# EAGLE library part MAX7480 (library HyTechDevices)
8th-order lowpass butterworth filter
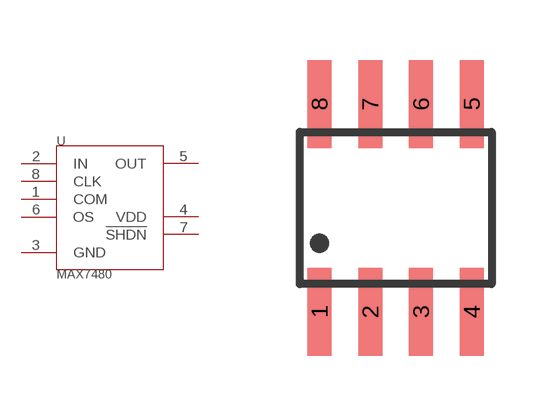
[diagram p16: symbol with the pads of SOIC-08; footprint SOIC-08]

Designator prefix -

## MAX7480  [SOIC-08]
1  COM
2  IN
3  GND
4  VDD
5  OUT
6  OS
7  !SHDN
8  CLK

## Footprint SOIC-08 (pad centres in mm)
SMALL OUTLINE INTEGRATED CIRCUIT
smd 0.6 x 2.2: 1 -1.905,-2.6; 2 -0.635,-2.6; 3 0.635,-2.6; 4 1.905,-2.6; 5 1.905,2.6; 6 0.635,2.6; 7 -0.635,2.6; 8 -1.905,2.6